# Altium schematic symbol library BGS13S4N9E6327XTSA1.SchLib: 2 symbols
Pins are listed as number, name and electrical type; pins without a type are passive.

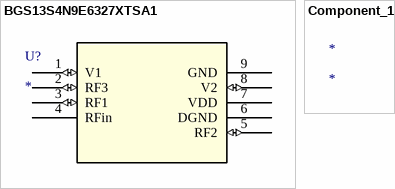
[diagram p0: symbols BGS13S4N9E6327XTSA1 to Component_1]

## BGS13S4N9E6327XTSA1
designator U?
No Description Available; Mfr_Name: Infineon; RefDes: RefDes; Type: Type
footprint TSNP-9-3_INF
pins: 1 V1 (io), 2 RF3 (io), 3 RF1 (io), 4 RFin, 5 RF2 (io), 6 DGND (power), 7 VDD (power), 8 V2 (io), 9 GND (power)

## Component_1
designator *